# EAGLE library part SHANPUTL (library ads4)
Shanpu TL Series Illuminated Switch
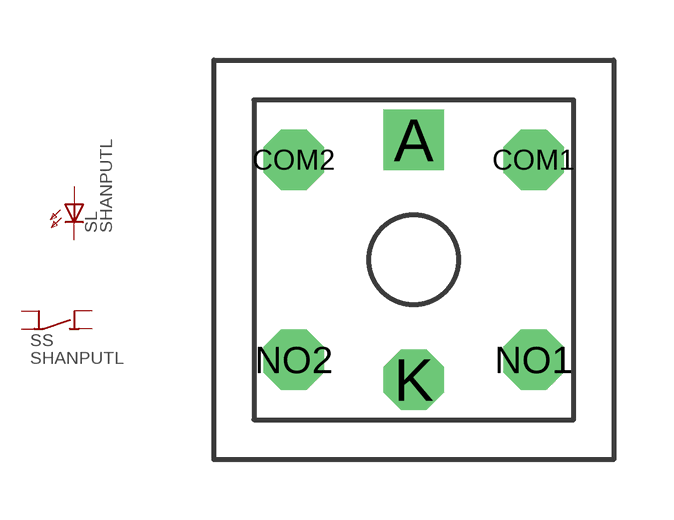
[diagram p28: symbol with the pads of SHANPUTL; footprint SHANPUTL]

Designator prefix S; gates S=SPST4 L=LED

## SHANPUTL  [SHANPUTL]
A  L:A  pas
COM1  S:COM  pas
COM2  S:COM  pas
K  L:K  pas
NO1  S:NO  pas
NO2  S:NO  pas

## Footprint SHANPUTL (pad centres in mm)
Shanpu TL Series Illuminated Switch
drill 1.016 square: A 0,3
drill 1.016 octagon: COM1 3,2.5; COM2 -3,2.5; K 0,-3; NO1 3,-2.5; NO2 -3,-2.5